# Altium footprint library greenhousePcbLib.PcbLib: 30 footprints (part 1 of 2)
Each footprint in its own frame and in the unit in brackets; x right, y up, seen from the top. Pads: shape width x height; smd on the part's side, far side on the other; paste and mask are expansions set on the pad; w line width, h text height; cw(c..) or ccw(c..) is an arc to the next point about the centre after c.
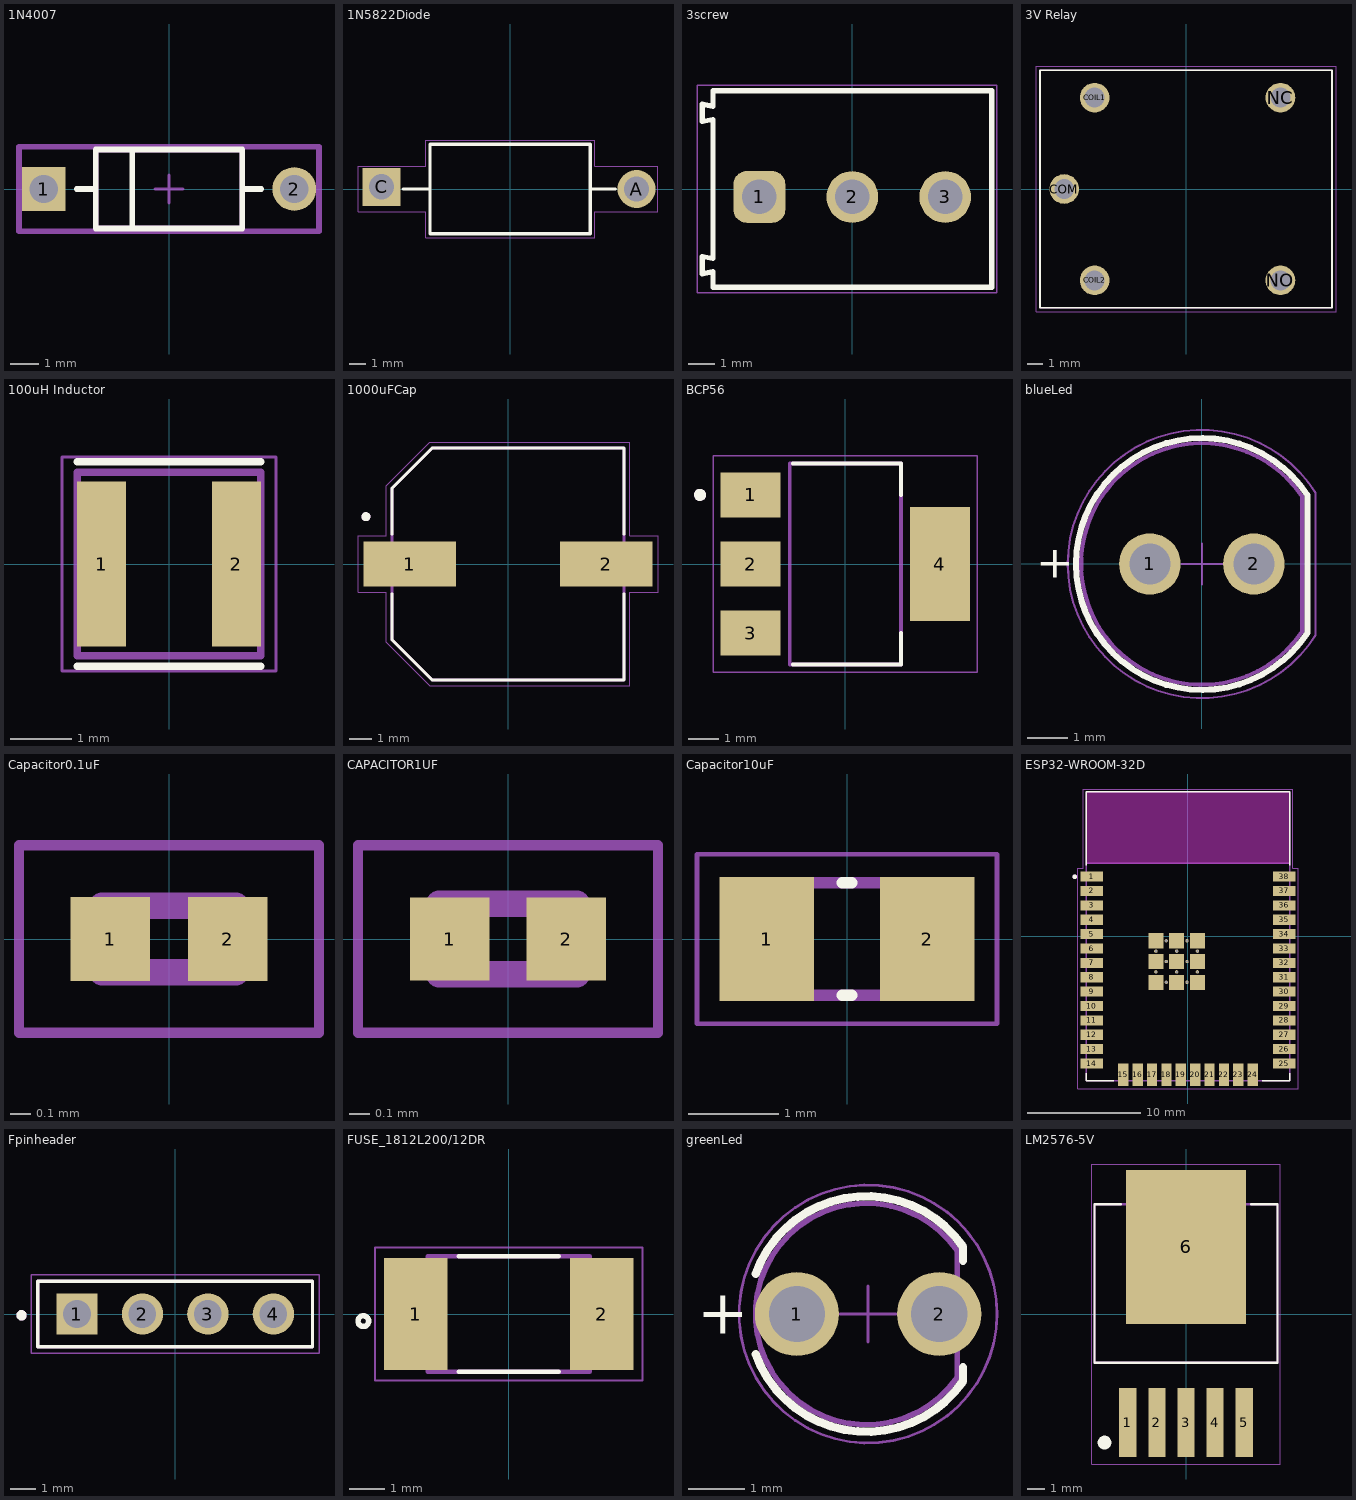
[diagram p0: the footprints below, top view; thin cyan lines are the x and y axes]

## 1N4007 [mm]
pads (2):
  rect 1.55x1.55 hole 1 paste-1000 mask+0: 1(-4.44,0)
  round 1.55 hole 1 paste-1000 mask+0: 2(4.44,0)
Top Overlay:
  lines w0.2: -3.265,0 -2.6,0 ; -1.3,-1.33 -1.3,1.33 ; 2.6,0 3.265,0 ; -2.6,-1.4 -2.6,1.4 2.6,1.4 2.6,-1.4 -2.6,-1.4
Top 3D Body:
  lines w0.2: -2.6,-1.4 -2.6,1.4 2.6,1.4 2.6,-1.4 -2.6,-1.4
Top Courtyard:
  lines w0.2: -5.315,-1.5 -5.315,1.5 5.315,1.5 5.315,-1.5 -5.315,-1.5
Top Assembly:
  lines w0.2: -5.315,-1.5 -5.315,1.5 5.315,1.5 5.315,-1.5 -5.315,-1.5
  text ".Designator" at 0,0.188 h1
Top Component Center:
  lines w0.1: -0.5,0 0.5,0 ; 0,-0.5 0,0.5
3D body "Diode_Diotec_1N4007_eec.STEP": height 0.25, standoff 0, extent -5.315,-1.5 5.315,1.5

## 1N5822Diode [mm]
pads (2):
  round 2.25 hole 1.5: A(7.493,0)
  rect 2.25x2.25 / inner round 2.25 / far side rect 2.25x2.25 hole 1.5: C(-7.62,0.127)
Top Overlay:
  lines w0.2: -6.35,0 -4.8,0 ; 4.8,0 6.223,0 ; -4.75,-2.65 4.75,-2.65 4.75,2.65 -4.75,2.65 -4.75,-2.65
Mechanical 15:
  lines w0.05: -9.017,-1.35 -9.017,1.35 -5,1.35 -5,2.9 5,2.9 5,1.35 8.763,1.35 8.763,-1.35 5,-1.35 5,-2.9 -5,-2.9 -5,-1.35 -9.017,-1.35
3D body "step_temp.STEP": height 4.6, standoff -26.17, extent -8.1,-2.3 8.1,2.3

## 3screw [mm] "3.50 mm Horizontal Entry Modular, 3p"
height 8.5
pads (3):
  rrect50% 1.95x1.95 hole 1.3: 1(-3.5,-0.3)
  round 1.95 hole 1.3: 2(0,-0.3) 3(3.5,-0.3)
Top Overlay:
  lines w0.2: -5.65,-3.195 -5.25,-3.12 -5.25,-3.7 5.25,-3.7 5.25,3.7 -5.25,3.7 -5.25,3.12 -5.65,3.195 -5.65,2.545 -5.25,2.62 -5.25,-2.62 -5.65,-2.545 -5.65,-3.195
Top 3D Body:
  lines w0.1: -5.65,-3.195 -5.25,-3.12 -5.25,-3.7 5.25,-3.7 5.25,3.7 -5.25,3.7 -5.25,3.12 -5.65,3.195 -5.65,2.545 -5.25,2.62 -5.25,-2.62 -5.65,-2.545 -5.65,-3.195
Top Courtyard:
  lines w0.05: -5.85,-3.9 5.45,-3.9 5.45,3.9 -5.85,3.9 -5.85,-3.9
Top Designator:
  text ".Designator" at -7.498,-0.5 h1.5
Top Component Outline:
  lines w0.1: -5.65,-3.195 -5.65,-2.545 -5.25,-2.62 -5.25,2.62 -5.65,2.545 -5.65,3.195 -5.25,3.12 -5.25,3.7 5.25,3.7 5.25,-3.7 -5.25,-3.7 -5.25,-3.12 -5.65,-3.195
Top Component Center:
  lines w0.05: -0.5,0 0.5,0 ; 0,-0.5 0,0.5
3D body "691214110003.stp": height 8.55, standoff -3.65, extent -5.7,-3.7 5.25,3.7

## 3V Relay [mm]
height 15.8
pads (5):
  round 1.95 hole 1.3: COIL1(-6,6) COIL2(-6,-6) COM(-8,0) NC(6.2,6) NO(6.2,-6)
Top Overlay:
  lines w0.127: -9.6,-7.8 9.6,-7.8 9.6,7.8 -9.6,7.8 -9.6,-7.8
Mechanical 13:
  lines w0.127: -9.6,-7.8 9.6,-7.8 9.6,7.8 -9.6,7.8 -9.6,-7.8
Mechanical 15:
  lines w0.05: -9.85,-8.05 9.85,-8.05 9.85,8.05 -9.85,8.05 -9.85,-8.05
3D body "step_temp.STEP": height 15.8, standoff -3, extent -9.6,-7.8 9.6,7.8

## 100uH Inductor [mm]
pads (2):
  rect 0.8x2.7 smd: 1(-1.1,0) 2(1.1,0)
Top Overlay:
  lines w0.127: -1.5,-1.67 1.5,-1.67 ; -1.5,1.67 1.5,1.67
Mechanical 13:
  lines w0.127: -1.5,-1.5 1.5,-1.5 1.5,1.5 -1.5,1.5 -1.5,-1.5
Mechanical 15:
  lines w0.05: -1.75,-1.75 -1.75,1.75 1.75,1.75 1.75,-1.75 -1.75,-1.75
3D body "step_temp.STEP": height 1.5, standoff 0, extent -1.5,-1.5 1.5,1.5

## 1000uFCap [mm]
pads (2):
  rect 4.1x2 smd: 1(-4.35,0) 2(4.35,0)
Top Overlay:
  circle w0.2: c-6.3,2.1 r0.1
  lines w0.127: -5.15,-1.32 -5.15,-3.35 -3.35,-5.15 5.15,-5.15 5.15,-1.32 ; -5.15,1.32 -5.15,3.35 -3.35,5.15 5.15,5.15 5.15,1.32
Mechanical 13:
  circle w0.2: c-6.3,2.1 r0.1
  lines w0.127: -5.15,-3.35 -3.35,-5.15 5.15,-5.15 5.15,5.15 -3.35,5.15 -5.15,3.35 -5.15,-3.35
Mechanical 15:
  lines w0.05: -6.65,-1.25 -6.65,1.25 -5.4,1.25 -5.4,3.475 -3.475,5.4 5.4,5.4 5.4,1.25 6.65,1.25 6.65,-1.25 5.4,-1.25 5.4,-5.4 -3.475,-5.4 -5.4,-3.475 -5.4,-1.25 -6.65,-1.25
3D body "step_temp.STEP": height 9.3, standoff -0.9, extent -5.85,-5.15 5.85,5.15

## BCP56 [mm]
height 1.75
pads (4):
  rect 2x1.5 smd: 1(-3.15,2.3) 2(-3.15,0) 3(-3.15,-2.3)
  rect 2x3.8 smd: 4(3.15,0)
Top Overlay:
  circle w0.2: c-4.836,2.3 r0.1
  lines w0.127: -1.75,-3.35 1.85,-3.35 1.85,-2.3 ; -1.75,3.35 1.85,3.35 1.85,2.3
Mechanical 13:
  circle w0.2: c-4.836,2.3 r0.1
  lines w0.127: -1.85,-3.35 1.85,-3.35 1.85,3.35 -1.85,3.35 -1.85,-3.35
Mechanical 15:
  lines w0.05: -4.4,-3.6 4.4,-3.6 4.4,3.6 -4.4,3.6 -4.4,-3.6
3D body "step_temp.STEP": height 1.8, standoff 0, extent -3.754,-3.225 3.246,3.225

## blueLed [mm] "THT Mono-color Round Color LED, 2-leads"
height 8.7
pads (2):
  round 1.5 hole 1: 1(-1.27,0) 2(1.27,0)
Top Overlay:
  lines w0.15: 2.575,-1.681 cw(c0,0) 2.575,1.681 2.575,-1.681
  text "+" at -4.05,-0.33 h0.8
Top Courtyard:
  lines w0.05: -0.5,0 0.5,0 ; 0,-0.5 0,0.5 ; 2.775,-1.74 cw(c0,0) 2.775,1.74 2.775,-1.74
Top Designator:
  text ".Designator" at -7.498,-0.5 h1.5
Top Component Outline:
  lines w0.1: 2.449,-1.644 cw(c0,0) 2.449,1.645 ; 2.45,-1.645 2.45,1.645
3D body "STEP-WL-TMRC-5mm-wos-rev1.stp": height 9.2, standoff -25.9, extent -2.95,-2.949 2.45,2.95

## Capacitor0.1uF [mm]
pads (2):
  rect 0.38x0.4 smd: 1(-0.281,0) 2(0.281,0)
Mechanical 13:
  lines w0.127: -0.32,-0.16 -0.32,0.16 0.32,0.16 0.32,-0.16 -0.32,-0.16
Mechanical 15:
  lines w0.05: -0.718,-0.448 -0.718,0.448 0.718,0.448 0.718,-0.448 -0.718,-0.448
3D body "step_temp.STEP": height 0.33, standoff 0, extent -0.3,-0.15 0.3,0.15

## CAPACITOR1UF [mm]
pads (2):
  rect 0.38x0.4 smd: 1(-0.28,0) 2(0.28,0)
Mechanical 13:
  lines w0.127: -0.33,-0.17 -0.33,0.17 0.33,0.17 0.33,-0.17 -0.33,-0.17
Mechanical 15:
  lines w0.05: -0.72,-0.45 -0.72,0.45 0.72,0.45 0.72,-0.45 -0.72,-0.45
3D body "step_temp.STEP": height 0.35, standoff 0, extent -0.3,-0.15 0.3,0.15

## Capacitor10uF [mm]
height 1.35
pads (2):
  rect 1.05x1.38 smd: 1(-0.89,0) 2(0.89,0)
Top Overlay:
  lines w0.127: -0.052,-0.625 0.052,-0.625 ; -0.052,0.625 0.052,0.625
Mechanical 13:
  lines w0.127: -1,-0.625 1,-0.625 1,0.625 -1,0.625 -1,-0.625
Mechanical 15:
  lines w0.05: -1.665,-0.94 1.665,-0.94 1.665,0.94 -1.665,0.94 -1.665,-0.94
3D body "step_temp.STEP": height 1.35, standoff 0, extent -1,-0.625 1,0.625

## ESP32-WROOM-32D [mm]
height 3.2
pads (59):
  rect 2x0.9 smd: 1(-8.5,5.26) 2(-8.5,3.99) 3(-8.5,2.72) 4(-8.5,1.45) 5(-8.5,0.18) 6(-8.5,-1.09) 7(-8.5,-2.36) 8(-8.5,-3.63) 9(-8.5,-4.9) 10(-8.5,-6.17) 11(-8.5,-7.44) 12(-8.5,-8.71) 13(-8.5,-9.98) 14(-8.5,-11.25) 25(8.5,-11.25) 26(8.5,-9.98) 27(8.5,-8.71) 28(8.5,-7.44) 29(8.5,-6.17) 30(8.5,-4.9) 31(8.5,-3.63) 32(8.5,-2.36) 33(8.5,-1.09) 34(8.5,0.18) 35(8.5,1.45) 36(8.5,2.72) 37(8.5,3.99) 38(8.5,5.26)
  rect 0.9x2 smd: 15(-5.715,-12.25) 16(-4.445,-12.25) 17(-3.175,-12.25) 18(-1.905,-12.25) 19(-0.635,-12.25) 20(0.635,-12.25) 21(1.905,-12.25) 22(3.175,-12.25) 23(4.445,-12.25) 24(5.715,-12.25)
  rect 1.33x1.33 smd: 39_1(-2.835,-0.405) 39_2(-1,-0.405) 39_3(0.835,-0.405) 39_4(-2.835,-2.24) 39_5(-1,-2.24) 39_6(0.835,-2.24) 39_7(-2.835,-4.075) 39_8(-1,-4.075) 39_9(0.835,-4.075)
  round 0.3 hole 0.2: 39_10(-1.917,-0.405) 39_11(-0.082,-0.405) 39_12(-2.835,-1.322) 39_13(-1,-1.322) 39_14(0.835,-1.322) 39_15(-1.917,-2.24) 39_16(-0.082,-2.24) 39_17(-2.835,-3.157) 39_18(-1,-3.157) 39_19(0.835,-3.157) 39_20(-1.917,-4.075) 39_21(-0.082,-4.075)
Top Overlay:
  circle w0.2: c-10,5.25 r0.1
  lines w0.127: -9,-12.1 -9,-12.75 -6.55,-12.75 ; -9,6.25 -9,12.75 9,12.75 9,6.25 ; 6.55,-12.75 9,-12.75 9,-12.1
Keep-Out Layer:
  region: 9,6.45 -9,6.45 -9,12.75 9,12.75
Mechanical 13:
  circle w0.2: c-10,5.25 r0.1
  lines w0.127: -9,6.45 -9,-12.75 9,-12.75 9,6.45 ; -9,6.45 -9,12.75 9,12.75 9,6.45 ; -9,6.45 9,6.45
  text "ANTENNA" at -6,9 h1.78
Mechanical 15:
  lines w0.05: -9.75,-13.5 9.75,-13.5 9.75,6 9.25,6 9.25,13 -9.25,13 -9.25,6 -9.75,6 -9.75,-13.5
3D body "step_temp.STEP": height 3.25, standoff 0, extent -9,-12.75 9,12.75

## Fpinheader [mm]
height 8.5
pads (4):
  rect 1.605x1.605 / inner round 1.605 / far side rect 1.605x1.605 hole 1.07: 1(-3.81,0)
  round 1.605 hole 1.07: 2(-1.27,0) 3(1.27,0) 4(3.81,0)
Top Overlay:
  circle w0.2: c-5.96,-0.05 r0.1
  lines w0.127: -5.33,-1.27 5.33,-1.27 5.33,1.27 -5.33,1.27 -5.33,-1.27
Mechanical 13:
  circle w0.2: c-5.96,-0.05 r0.1
  lines w0.127: -5.33,-1.27 5.33,-1.27 5.33,1.27 -5.33,1.27 -5.33,-1.27
Mechanical 15:
  lines w0.05: -5.58,-1.52 5.58,-1.52 5.58,1.52 -5.58,1.52 -5.58,-1.52
3D body "step_temp.STEP": height 8.51, standoff -3.2, extent -5.334,-1.27 5.334,1.27

## FUSE_1812L200/12DR [mm]
pads (2):
  rect 1.78x3.15 smd: 1(-2.615,0) 2(2.615,0)
Top Overlay:
  circle w0.152: c-4.08,-0.2 r0.15
  lines w0.127: -1.4,-1.62 1.4,-1.62 ; -1.4,1.62 1.4,1.62
Mechanical 13:
  lines w0.127: -2.275,-1.62 -2.275,1.62 2.275,1.62 2.275,-1.62 -2.275,-1.62
Mechanical 15:
  lines w0.05: -3.755,-1.87 -3.755,1.87 3.755,1.87 3.755,-1.87 -3.755,-1.87
3D body "FUSE_2920L50016_LTF.step": height 1.52, standoff 0, extent -3.937,-2.794 3.937,2.54

## greenLed [mm] "THT Mono-color Round Color LED, 2-leads"
height 5.3
pads (2):
  round 1.5 hole 1: 1(-1271.27,-1270) 2(-1268.73,-1270)
Top Overlay:
  lines w0.15: -1272.003,-1270.719 ccw(c-1270.03,-1270) -1268.306,-1271.199 -1268.306,-1270.95 ; -1272.003,-1269.281 cw(c-1270.03,-1270) -1268.306,-1268.801 -1268.306,-1269.05
  text "+" at -1273.05,-1270.35 h0.8
Top Courtyard:
  circle w0.05: c-1270,-1270 r2.3
  lines w0.05: -1270.5,-1270 -1269.5,-1270 ; -1270,-1270.5 -1270,-1269.5
Top Designator:
  text ".Designator" at -1274.998,-1270.333 h1
Top Component Outline:
  lines w0.1: -1268.409,-1271.128 cw(c-1270.03,-1270) -1268.409,-1268.872 -1268.409,-1271.128
3D body "15103xxx.stp": height 5.35, standoff -26.35, extent -1271.991,-1271.974 -1268.371,-1268.026

## LM2576-5V [mm]
pads (6):
  rect 1x4 smd: 1(-3.4,-6.33) 2(-1.7,-6.33) 3(0,-6.33) 4(1.7,-6.33) 5(3.4,-6.33)
  rect 7x9 smd: 6(0,3.91)
Top Overlay:
  circle w0.4: c-4.75,-7.5 r0.2
  lines w0.127: -3.8,6.4 -5.33,6.4 -5.33,-2.84 5.33,-2.84 5.33,6.4 3.8,6.4
Mechanical 13:
  lines w0.127: -5.33,-2.84 5.33,-2.84 5.33,6.4 -5.33,6.4 -5.33,-2.84
Mechanical 15:
  lines w0.05: -5.5,-8.75 -5.5,8.75 5.5,8.75 5.5,-8.75 -5.5,-8.75
3D body "step_temp.STEP": height 4.83, standoff -0.25, extent -5.08,-6.92 5.08,7.99